# EAGLE library part LTC3878EGN#PBF (library LTC3878EGN#PBF)
LINEAR TECHNOLOGY - LTC3878EGN#PBF - BUCK, SYNCH, 34.2V, 16SSOP Source: Datasheet <https://componentsearchengine.com/Datasheets/1/LTC3878EGN#PBF.pdf>
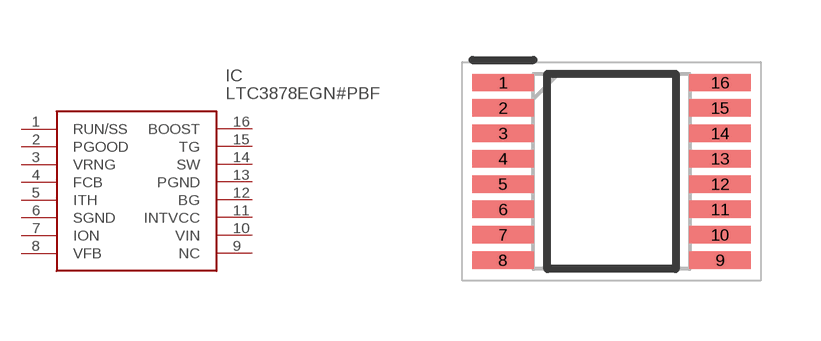
[diagram p0: symbol with the pads of SOP64P601X175-16N; footprint SOP64P601X175-16N]

Designator prefix IC

## LTC3878EGN#PBF (Description: LINEAR TECHNOLOGY - LTC3878EGN#PBF - BUCK, SYNCH, 34.2V, 16SSOP; Height: 1.75mm; Manufacturer_Name: Analog Devices; Manufacturer_Part_Number: LTC3878EGN#PBF; Mouser_Part_Number: 584-LTC3878EGN#PBF; Mouser_Price-Stock: https://www.mouser.com/Search/Refine.aspx?Keyword=584-LTC3878EGN%23PBF)  [SOP64P601X175-16N]
1  RUN/SS
2  PGOOD
3  VRNG
4  FCB
5  ITH
6  SGND
7  ION
8  VFB
9  NC  nc
10  VIN
11  INTVCC
12  BG
13  PGND
14  SW
15  TG
16  BOOST

## Footprint SOP64P601X175-16N (pad centres in mm)
16-Lead Plastic SSOP
smd 1.526 x 0.435: 1 -2.712,2.222; 2 -2.712,1.588; 3 -2.712,0.952; 4 -2.712,0.318; 5 -2.712,-0.318; 6 -2.712,-0.952; 7 -2.712,-1.588; 8 -2.712,-2.222; 9 2.712,-2.222; 10 2.712,-1.588; 11 2.712,-0.952; 12 2.712,-0.318; 13 2.712,0.318; 14 2.712,0.952; 15 2.712,1.588; 16 2.712,2.222